# Altium integrated library Altera APEX 20KE.IntLib: 235 symbols (part 23 of 49)
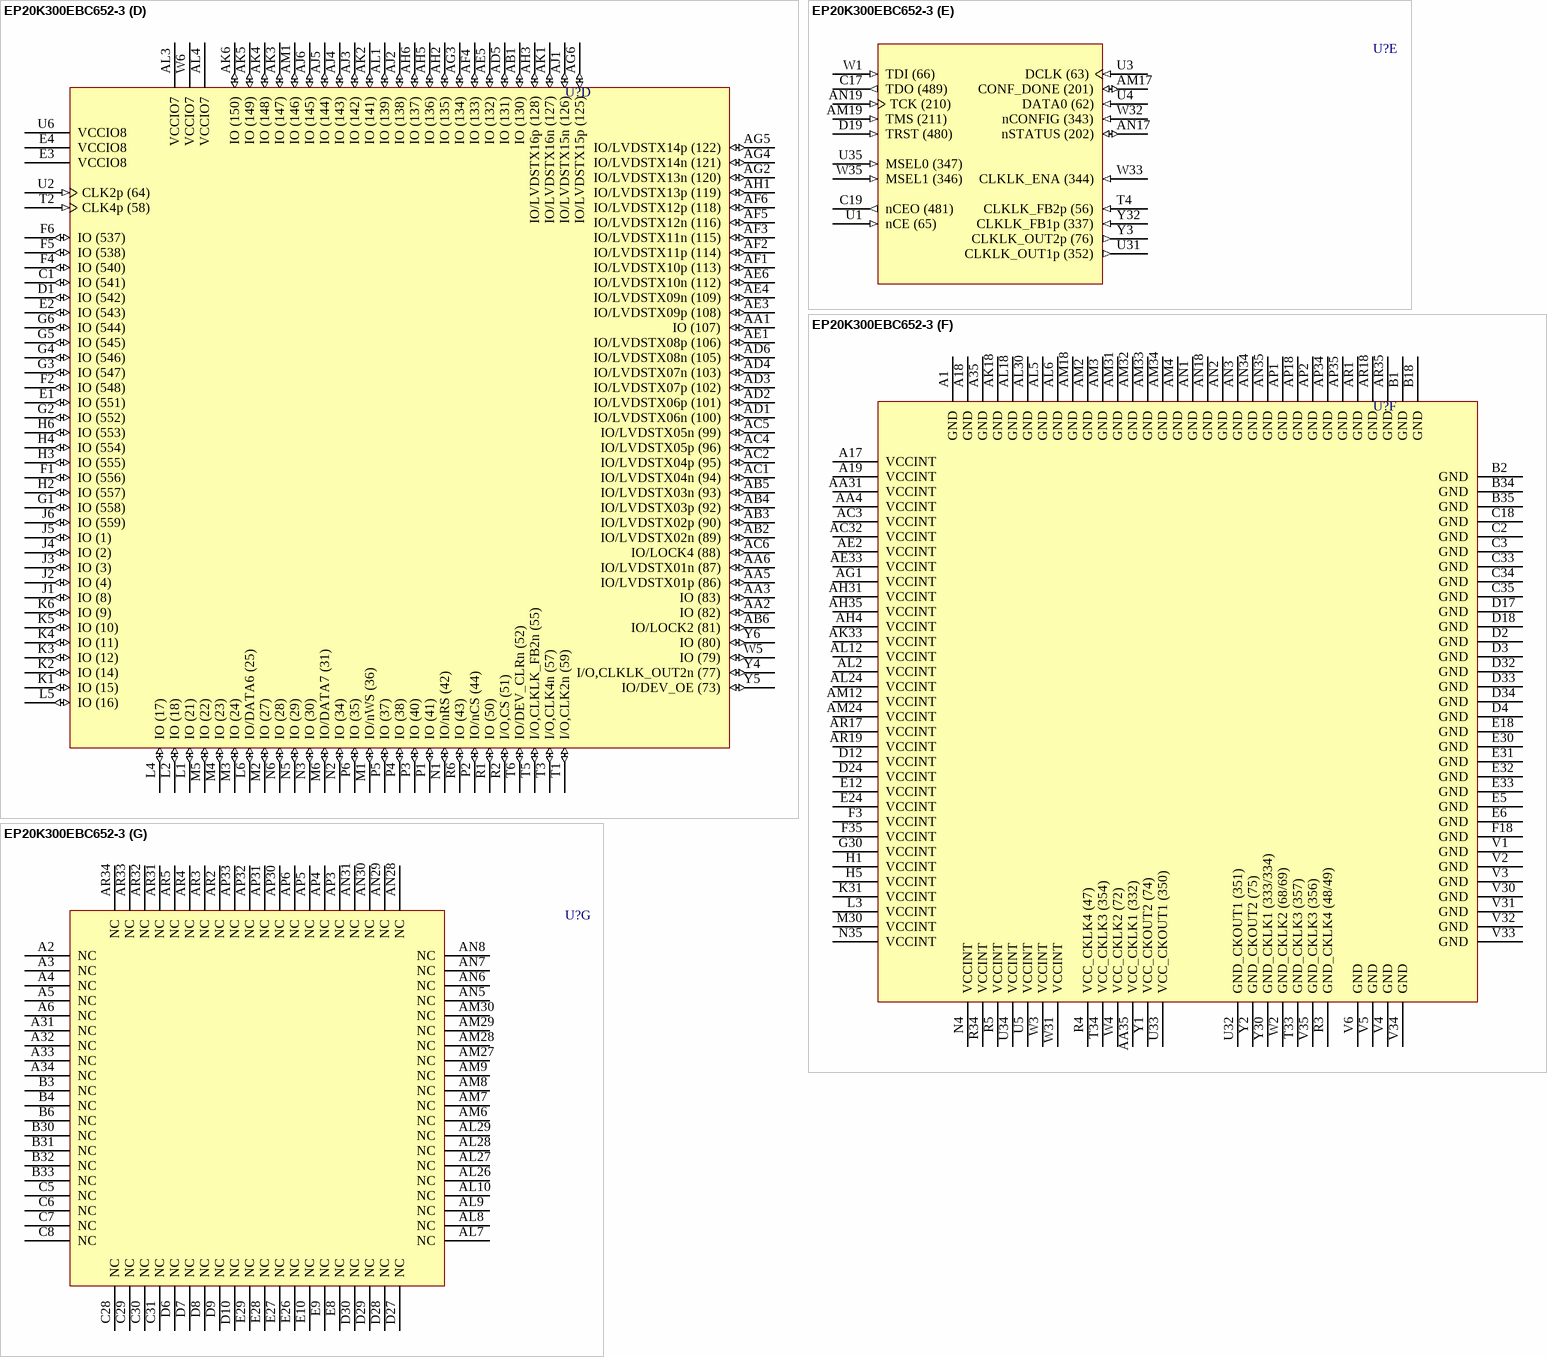
[diagram p421: symbol EP20K300EBC652-3]

## EP20K300EBC652-3
designator U?
APEX 20K300E PLD, 652-Pin BGA, Commercial Grade, Speed Grade 3; Published: 17-Jul-2002; LatestRevisionDate: 13-Apr-2006; LatestRevisionNote: IPC-7351 Footprint Added.; DatasheetVersion: Mar-2004; PackageVersion: ver14.1, Oct-2005; PackageReference: BGA652; Publisher: Altium Limited; PackageDescription: 652-Ball Ball Grid Array (BGA652); Code_JEDEC: MO-192-BAW-1; ComponentLink1Description: Manufacturer Link; ComponentLink1URL: http://www.altera.com/products/devices/apex/apx-index.html; ComponentLink2Description: Datasheet; ComponentLink2URL: http://www.altera.com/literature/ds/apex.pdf
footprint BGA652 (BGA, 652-Leads, Body 45x45mm, Pitch 1.27mm)
3D model EP20K300E-BGA652 (652-Ball Ball Grid Array (BGA652))
part A pins: A7 IO (532) (io), A8 IO/DATA2 (523) (io), A9 IO (520) (io), A10 IO (513) (io), A11 IO (508) (io), A12 IO (504) (io), A13 IO (503) (io), A14 IO/RDYnBSY (497) (io), A15 IO (495) (io), A16 IO (491) (io), A20 IO (479) (io), A21 IO (475) (io), A22 IO (473) (io), A23 IO (467) (io), A24 IO (466) (io), A25 IO (462) (io), A26 IO (457) (io), A27 IO (451) (io), A28 IO (448) (io), A29 IO (438) (io), A30 IO (433) (io), B5 IO/DATA4 (549) (io), B7 IO/DATA3 (536) (io), B8 IO (533) (io), B9 IO (529) (io), B10 IO (521) (io), B11 IO (516) (io), B12 IO (510) (io), B13 IO (505) (io), B14 IO (498) (io), B15 IO (496) (io), B16 IO (492) (io), B17 FAST2 (488) (io), B19 FAST1 (482) (io), B20 IO (478) (io), B21 IO (474) (io), B22 IO (472) (io), B23 IO (465) (io), B24 IO (460) (io), B25 IO (455) (io), B26 IO (450) (io), B27 IO (441) (io), B28 IO (437) (io), B29 IO (432) (io), C4 VCCIO1 (power), C9 IO (535) (io), C10 IO (530) (io), C11 IO (522) (io), C12 IO (517) (io), C13 IO/DATA1 (511) (io), C14 IO (506) (io), C15 I/O,CLKUSR (500) (io), C16 IO/INIT_DONE (493) (io), C20 IO (477) (io), C21 IO (470) (io), C22 IO (464) (io), C23 IO (459) (io), C24 IO (454) (io), C25 IO (449) (io), C26 IO (440) (io), C27 IO (435) (io), C32 VCCIO2 (power), D5 VCCIO1 (power), D11 IO (531) (io), D13 IO (518) (io), D14 IO (509) (io), D15 IO (502) (io), D16 IO (494) (io), D20 IO (476) (io), D21 IO (468) (io), D22 IO (461) (io), D23 IO (453) (io), D25 IO (439) (io), D26 IO (434) (io), D31 VCCIO2 (power), E7 IO/DATA5 (560) (io), E11 IO (534) (io), E13 IO (519) (io), E14 IO (514) (io), E15 IO (507) (io), E16 IO (499) (io), E17 VCCIO1 (power), E19 VCCIO2 (power), E20 IO (471) (io), E21 IO (463) (io), E22 IO (456) (io), E23 IO (452) (io), E25 IO (436) (io)
part B pins: AA30 IO/LOCK1 (326) (io), AA32 IO (329) (io), AA33 IO (330) (io), AA34 IO (331) (io), AB30 IO (318) (io), AB31 IO (319) (io), AB32 IO (322) (io), AB33 IO (323) (io), AB34 IO (324) (io), AB35 IO (325) (io), AC30 IO (311) (io), AC31 IO (312) (io), AC33 IO (315) (io), AC34 IO (316) (io), AC35 IO (317) (io), AD30 IO (304) (io), AD31 IO (305) (io), AD32 IO (306) (io), AD33 IO (308) (io), AD34 IO (309) (io), AD35 IO (310) (io), AE30 IO (297) (io), AE31 IO (298) (io), AE32 IO (299) (io), AE34 IO (302) (io), AE35 IO (303) (io), AF30 IO (290) (io), AF31 IO (291) (io), AF32 IO (292) (io), AF33 IO (293) (io), AF34 IO (295) (io), AF35 IO (296) (io), AG30 IO (281) (io), AG31 IO (283) (io), AG32 IO (284) (io), AG33 IO (285) (io), AG34 IO (286) (io), AG35 IO (289) (io), AH30 IO (275) (io), AH32 IO (276) (io), AH33 IO (277) (io), AH34 IO (279) (io), AJ30 IO (267) (io), AJ31 IO (268) (io), AJ32 IO (269) (io), AJ33 IO (270) (io), AJ34 IO (274) (io), AJ35 IO (280) (io), AK30 IO (262) (io), AK31 IO (263) (io), AK32 IO (264) (io), AK34 IO (272) (io), AK35 IO (278) (io), AL31 VCCIO4 (power), AL32 VCCIO4 (power), AL33 IO (261) (io), AL34 IO (265) (io), AL35 IO (273) (io), AM35 IO (266) (io), D35 IO (427) (io), E34 IO (428) (io), E35 IO (422) (io), F30 VCCIO3 (power), F31 VCCIO3 (power), F32 IO (430) (io), F33 IO (429) (io), F34 IO (423) (io), G31 IO (426) (io), G32 IO (425) (io), G33 IO (424) (io), G34 IO (421) (io), G35 IO/LVDSRX16n (406) (io), H30 IO (419) (io), H31 IO (418) (io), H32 IO (417) (io), H33 IO (416) (io), H34 IO/LVDSRX16p (407) (io), H35 IO (414) (io), J30 IO (415) (io), J31 IO/LVDSRX15n (405) (io), J32 IO/LVDSRX15p (404) (io), J33 IO/LVDSRX14p (401) (io), J34 IO/LVDSRX14n (400) (io), J35 IO/LVDSRX13n (399) (io), K30 IO/LVDSRX13p (398) (io), K32 IO/LVDSRX12p (397) (io), K33 IO/LVDSRX12n (395) (io), K34 IO (413) (io), K35 IO/LVDSRX11n (394) (io), L30 IO/LVDSRX11p (393) (io), L31 IO/LVDSRX10p (392) (io), L32 IO/LVDSRX10n (391) (io), L33 IO (412) (io), L34 IO/LVDSRX09n (388) (io), L35 IO/LVDSRX09p (387) (io), M31 IO/LVDSRX08p (385) (io), M32 IO/LVDSRX08n (384) (io), M33 IO (411) (io), M34 IO/LVDSRX07n (381) (io), M35 IO/LVDSRX07p (380) (io), N30 IO/LVDSRX06p (379) (io), N31 IO/LVDSRX06n (378) (io), N32 IO (410) (io), N33 IO/LVDSRX05n (377) (io), N34 IO/LVDSRX05p (374) (io), P30 IO/LVDSRX04p (373) (io), P31 IO/LVDSRX04n (372) (io), P32 IO (386) (io), P33 IO/LVDSRX03n (371) (io), P34 IO/LVDSRX03p (370) (io), P35 IO/LVDSRX02p (368) (io), R30 IO/LVDSRX02n (367) (io), R31 IO/LOCK3 (366) (io), R32 IO/LVDSRX01n (365) (io), R33 IO/LVDSRX01p (364) (io), R35 IO (361) (io), T30 IO (360) (io), T31 IO (359) (io), T32 IO (358) (io), T35 I/O,CLKLK_OUT1n (353) (io), U30 VCCIO3 (power), W30 VCCIO4 (power), W34 CLK1p (345) (in), Y31 I/O,CLKLK_FB1n (336) (io), Y33 I/O,CLK3n (338) (io), Y34 CLK3p (339) (in), Y35 I/O,CLK1n (340) (io)
part C pins: AL11 IO (157) (io), AL13 IO (172) (io), AL14 IO (176) (io), AL15 IO (183) (io), AL16 IO (191) (io), AL17 VCCIO6 (power), AL19 VCCIO5 (power), AL20 IO (220) (io), AL21 IO (228) (io), AL22 IO (235) (io), AL23 IO (239) (io), AL25 IO (254) (io), AM5 VCCIO6 (power), AM10 IO (155) (io), AM11 IO (160) (io), AM13 IO (173) (io), AM14 IO (181) (io), AM15 IO (188) (io), AM16 IO (197) (io), AM20 IO (215) (io), AM21 IO (223) (io), AM22 IO (230) (io), AM23 IO (238) (io), AM25 IO (251) (io), AM26 IO (256) (io), AN4 VCCIO6 (power), AN9 IO (156) (io), AN10 IO (161) (io), AN11 IO (169) (io), AN12 IO (174) (io), AN13 IO (179) (io), AN14 IO (184) (io), AN15 IO (190) (io), AN16 IO (198) (io), AN20 IO (214) (io), AN21 IO (221) (io), AN22 IO (227) (io), AN23 IO (232) (io), AN24 IO (237) (io), AN25 IO (242) (io), AN26 IO (250) (io), AN27 IO (255) (io), AN32 VCCIO5 (power), AN33 VCCIO5 (power), AP7 IO (153) (io), AP8 IO (158) (io), AP9 IO (162) (io), AP10 IO (170) (io), AP11 IO (175) (io), AP12 IO (180) (io), AP13 IO (185) (io), AP14 IO (193) (io), AP15 IO (195) (io), AP16 IO (199) (io), AP17 FAST4 (203) (io), AP19 FAST3 (209) (io), AP20 IO (213) (io), AP21 IO (217) (io), AP22 IO (219) (io), AP23 IO (226) (io), AP24 IO (231) (io), AP25 IO (236) (io), AP26 IO (241) (io), AP27 IO (249) (io), AP28 IO (253) (io), AP29 IO (258) (io), AR6 IO (154) (io), AR7 IO (159) (io), AR8 IO (168) (io), AR9 IO (171) (io), AR10 IO (177) (io), AR11 IO (182) (io), AR12 IO (186) (io), AR13 IO (187) (io), AR14 IO (194) (io), AR15 IO (196) (io), AR16 IO (200) (io), AR20 IO (212) (io), AR21 IO (216) (io), AR22 IO (218) (io), AR23 IO (224) (io), AR24 IO (225) (io), AR25 IO (229) (io), AR26 IO (234) (io), AR27 IO (240) (io), AR28 IO (243) (io), AR29 IO (252) (io), AR30 IO (257) (io)
part D pins: AA1 IO (107) (io), AA2 IO (82) (io), AA3 IO (83) (io), AA5 IO/LVDSTX01p (86) (io), AA6 IO/LVDSTX01n (87) (io), AB1 IO (130) (io), AB2 IO/LVDSTX02n (89) (io), AB3 IO/LVDSTX02p (90) (io), AB4 IO/LVDSTX03p (92) (io), AB5 IO/LVDSTX03n (93) (io), AB6 IO/LOCK2 (81) (io), AC1 IO/LVDSTX04n (94) (io), AC2 IO/LVDSTX04p (95) (io), AC4 IO/LVDSTX05p (96) (io), AC5 IO/LVDSTX05n (99) (io), AC6 IO/LOCK4 (88) (io), AD1 IO/LVDSTX06n (100) (io), AD2 IO/LVDSTX06p (101) (io), AD3 IO/LVDSTX07p (102) (io), AD4 IO/LVDSTX07n (103) (io), AD5 IO (131) (io), AD6 IO/LVDSTX08n (105) (io), AE1 IO/LVDSTX08p (106) (io), AE3 IO/LVDSTX09p (108) (io), AE4 IO/LVDSTX09n (109) (io), AE5 IO (132) (io), AE6 IO/LVDSTX10n (112) (io), AF1 IO/LVDSTX10p (113) (io), AF2 IO/LVDSTX11p (114) (io), AF3 IO/LVDSTX11n (115) (io), AF4 IO (133) (io), AF5 IO/LVDSTX12n (116) (io), AF6 IO/LVDSTX12p (118) (io), AG2 IO/LVDSTX13n (120) (io), AG3 IO (134) (io), AG4 IO/LVDSTX14n (121) (io), AG5 IO/LVDSTX14p (122) (io), AG6 IO/LVDSTX15p (125) (io), AH1 IO/LVDSTX13p (119) (io), AH2 IO (135) (io), AH3 IO/LVDSTX16p (128) (io), AH5 IO (136) (io), AH6 IO (137) (io), AJ1 IO/LVDSTX15n (126) (io), AJ2 IO (138) (io), AJ3 IO (142) (io), AJ4 IO (143) (io), AJ5 IO (144) (io), AJ6 IO (145) (io), AK1 IO/LVDSTX16n (127) (io), AK2 IO (141) (io), AK3 IO (147) (io), AK4 IO (148) (io), AK5 IO (149) (io), AK6 IO (150) (io), AL1 IO (139) (io), AL3 VCCIO7 (power), AL4 VCCIO7 (power), AM1 IO (146) (io), C1 IO (541) (io), D1 IO (542) (io), E1 IO (551) (io), E2 IO (543) (io), E3 VCCIO8 (power), E4 VCCIO8 (power), F1 IO (556) (io), F2 IO (548) (io), F4 IO (540) (io), F5 IO (538) (io), F6 IO (537) (io), G1 IO (558) (io), G2 IO (552) (io), G3 IO (547) (io), G4 IO (546) (io), G5 IO (545) (io), G6 IO (544) (io), H2 IO (557) (io), H3 IO (555) (io), H4 IO (554) (io), H6 IO (553) (io), J1 IO (8) (io), J2 IO (4) (io), J3 IO (3) (io), J4 IO (2) (io), J5 IO (1) (io), J6 IO (559) (io), K1 IO (15) (io), K2 IO (14) (io), K3 IO (12) (io), K4 IO (11) (io), K5 IO (10) (io), K6 IO (9) (io), L1 IO (21) (io), L2 IO (18) (io), L4 IO (17) (io), L5 IO (16) (io), L6 IO/DATA6 (25) (io), M1 IO/nWS (36) (io), M2 IO (27) (io), M3 IO (24) (io), M4 IO (23) (io), M5 IO (22) (io), M6 IO/DATA7 (31) (io), N1 IO/nRS (42) (io), N2 IO (34) (io), N3 IO (30) (io), N5 IO (29) (io), N6 IO (28) (io), P1 IO (41) (io), P2 IO/nCS (44) (io), P3 IO (40) (io), P4 IO (38) (io), P5 IO (37) (io), P6 IO (35) (io), R1 IO (50) (io), R2 I/O,CS (51) (io), R6 IO (43) (io), T1 I/O,CLK2n (59) (io), T2 CLK4p (58) (in), T3 I/O,CLK4n (57) (io), T5 I/O,CLKLK_FB2n (55) (io), T6 IO/DEV_CLRn (52) (io), U2 CLK2p (64) (in), U6 VCCIO8 (power), W5 IO (79) (io), W6 VCCIO7 (power), Y4 I/O,CLKLK_OUT2n (77) (io), Y5 IO/DEV_OE (73) (io), Y6 IO (80) (io)
part E pins: AM17 CONF_DONE (201) (io), AM19 TMS (211) (in), AN17 nSTATUS (202) (io), AN19 TCK (210) (in), C17 TDO (489) (out), C19 nCEO (481) (out), D19 TRST (480) (in), T4 CLKLK_FB2p (56) (in), U1 nCE (65) (in), U3 DCLK (63) (in), U4 DATA0 (62) (in), U31 CLKLK_OUT1p (352) (out), U35 MSEL0 (347) (in), W1 TDI (66) (in), W32 nCONFIG (343) (in), W33 CLKLK_ENA (344) (in), W35 MSEL1 (346) (in), Y3 CLKLK_OUT2p (76) (out), Y32 CLKLK_FB1p (337) (in)
part F pins: A1 GND (power), A17 VCCINT (power), A18 GND (power), A19 VCCINT (power), A35 GND (power), AA4 VCCINT (power), AA31 VCCINT (power), AA35 VCC_CKLK1 (332) (power), AC3 VCCINT (power), AC32 VCCINT (power), AE2 VCCINT (power), AE33 VCCINT (power), AG1 VCCINT (power), AH4 VCCINT (power), AH31 VCCINT (power), AH35 VCCINT (power), AK18 GND (power), AK33 VCCINT (power), AL2 VCCINT (power), AL5 GND (power), AL6 GND (power), AL12 VCCINT (power), AL18 GND (power), AL24 VCCINT (power), AL30 GND (power), AM2 GND (power), AM3 GND (power), AM4 GND (power), AM12 VCCINT (power), AM18 GND (power), AM24 VCCINT (power), AM31 GND (power), AM32 GND (power), AM33 GND (power), AM34 GND (power), AN1 GND (power), AN2 GND (power), AN3 GND (power), AN18 GND (power), AN34 GND (power), AN35 GND (power), AP1 GND (power), AP2 GND (power), AP18 GND (power), AP34 GND (power), AP35 GND (power), AR1 GND (power), AR17 VCCINT (power), AR18 GND (power), AR19 VCCINT (power), AR35 GND (power), B1 GND (power), B2 GND (power), B18 GND (power), B34 GND (power), B35 GND (power), C2 GND (power), C3 GND (power), C18 GND (power), C33 GND (power), C34 GND (power), C35 GND (power), D2 GND (power), D3 GND (power), D4 GND (power), D12 VCCINT (power), D17 GND (power), D18 GND (power), D24 VCCINT (power), D32 GND (power), D33 GND (power), D34 GND (power), E5 GND (power), E6 GND (power), E12 VCCINT (power), E18 GND (power), E24 VCCINT (power), E30 GND (power), E31 GND (power), E32 GND (power), E33 GND (power), F3 VCCINT (power), F18 GND (power), F35 VCCINT (power), G30 VCCINT (power), H1 VCCINT (power), H5 VCCINT (power), K31 VCCINT (power), L3 VCCINT (power), M30 VCCINT (power), N4 VCCINT (power), N35 VCCINT (power), R3 GND_CKLK4 (48/49) (power), R4 VCC_CKLK4 (47) (power), R5 VCCINT (power), R34 VCCINT (power), T33 GND_CKLK3 (357) (power), T34 VCC_CKLK3 (354) (power), U5 VCCINT (power), U32 GND_CKOUT1 (351) (power), U33 VCC_CKOUT1 (350) (power), U34 VCCINT (power), V1 GND (power), V2 GND (power), V3 GND (power), V4 GND (power), V5 GND (power), V6 GND (power), V30 GND (power), V31 GND (power), V32 GND (power), V33 GND (power), V34 GND (power), V35 GND_CKLK3 (356) (power), W2 GND_CKLK2 (68/69) (power), W3 VCCINT (power), W4 VCC_CKLK2 (72) (power), W31 VCCINT (power), Y1 VCC_CKOUT2 (74) (power), Y2 GND_CKOUT2 (75) (power), Y30 GND_CKLK1 (333/334) (power)
part G pins: A2 NC, A3 NC, A4 NC, A5 NC, A6 NC, A31 NC, A32 NC, A33 NC, A34 NC, AL7 NC, AL8 NC, AL9 NC, AL10 NC, AL26 NC, AL27 NC, AL28 NC, AL29 NC, AM6 NC, AM7 NC, AM8 NC, AM9 NC, AM27 NC, AM28 NC, AM29 NC, AM30 NC, AN5 NC, AN6 NC, AN7 NC, AN8 NC, AN28 NC, AN29 NC, AN30 NC, AN31 NC, AP3 NC, AP4 NC, AP5 NC, AP6 NC, AP30 NC, AP31 NC, AP32 NC, AP33 NC, AR2 NC, AR3 NC, AR4 NC, AR5 NC, AR31 NC, AR32 NC, AR33 NC, AR34 NC, B3 NC, B4 NC, B6 NC, B30 NC, B31 NC, B32 NC, B33 NC, C5 NC, C6 NC, C7 NC, C8 NC, C28 NC, C29 NC, C30 NC, C31 NC, D6 NC, D7 NC, D8 NC, D9 NC, D10 NC, D27 NC, D28 NC, D29 NC, D30 NC, E8 NC, E9 NC, E10 NC, E26 NC, E27 NC, E28 NC, E29 NC

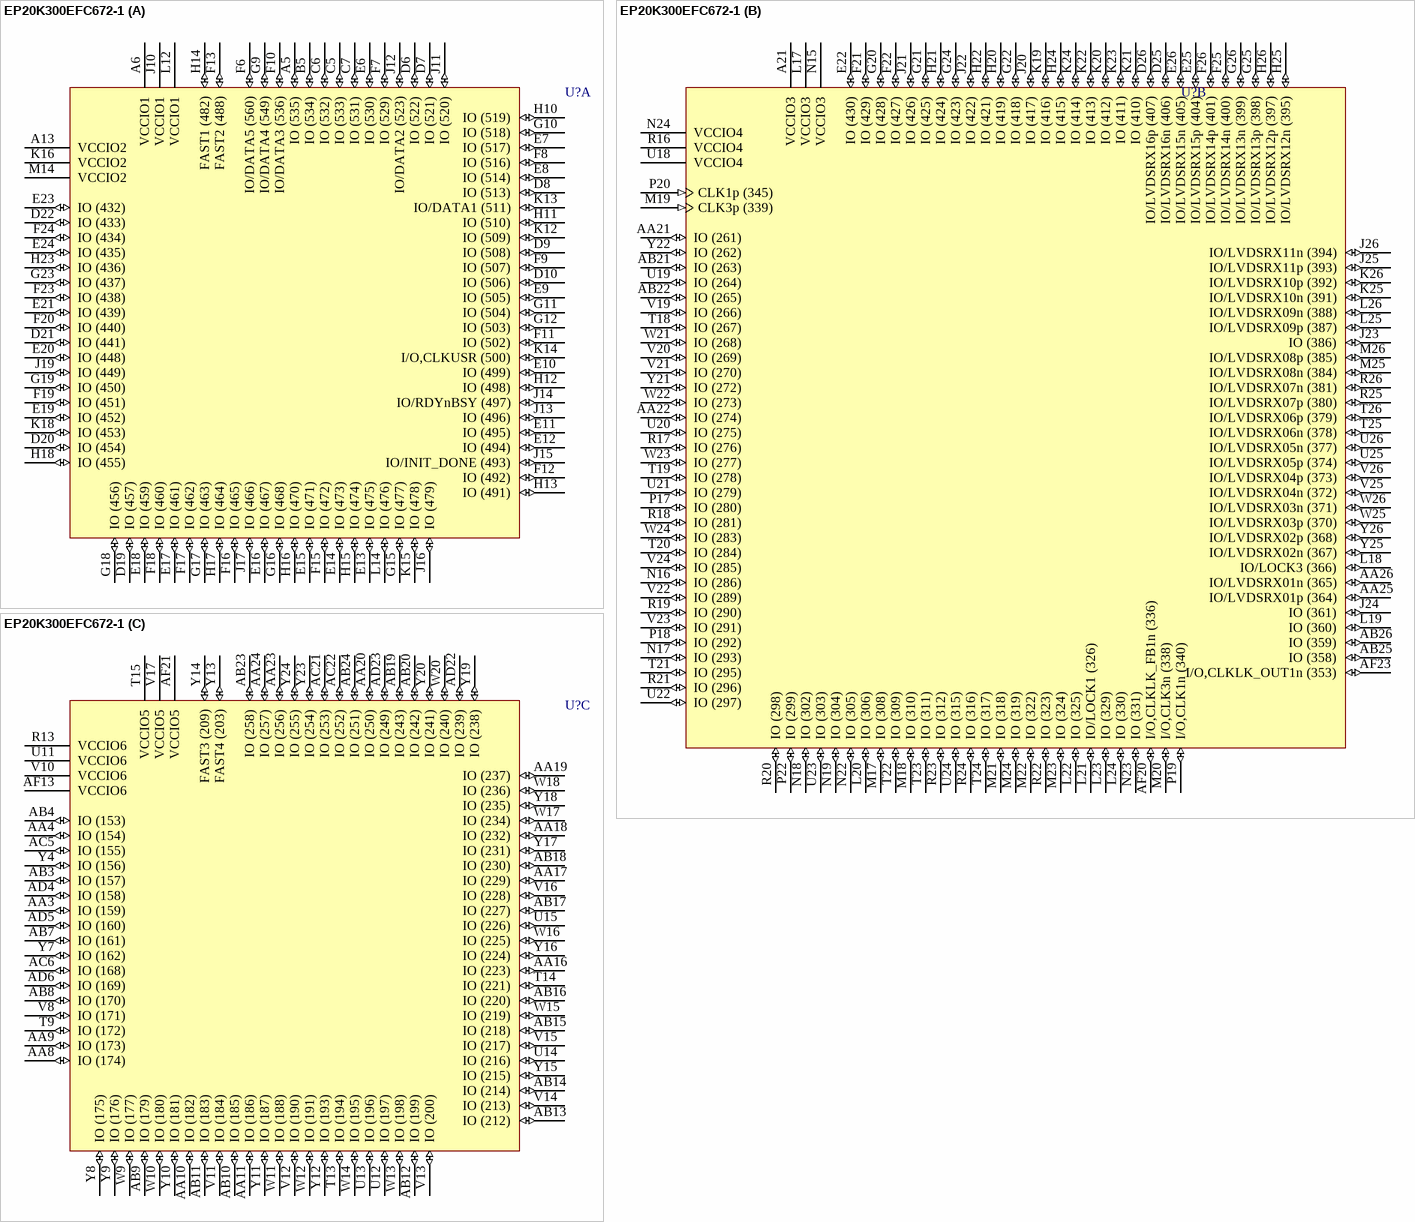
[diagram p227: symbol EP20K300EFC672-1]

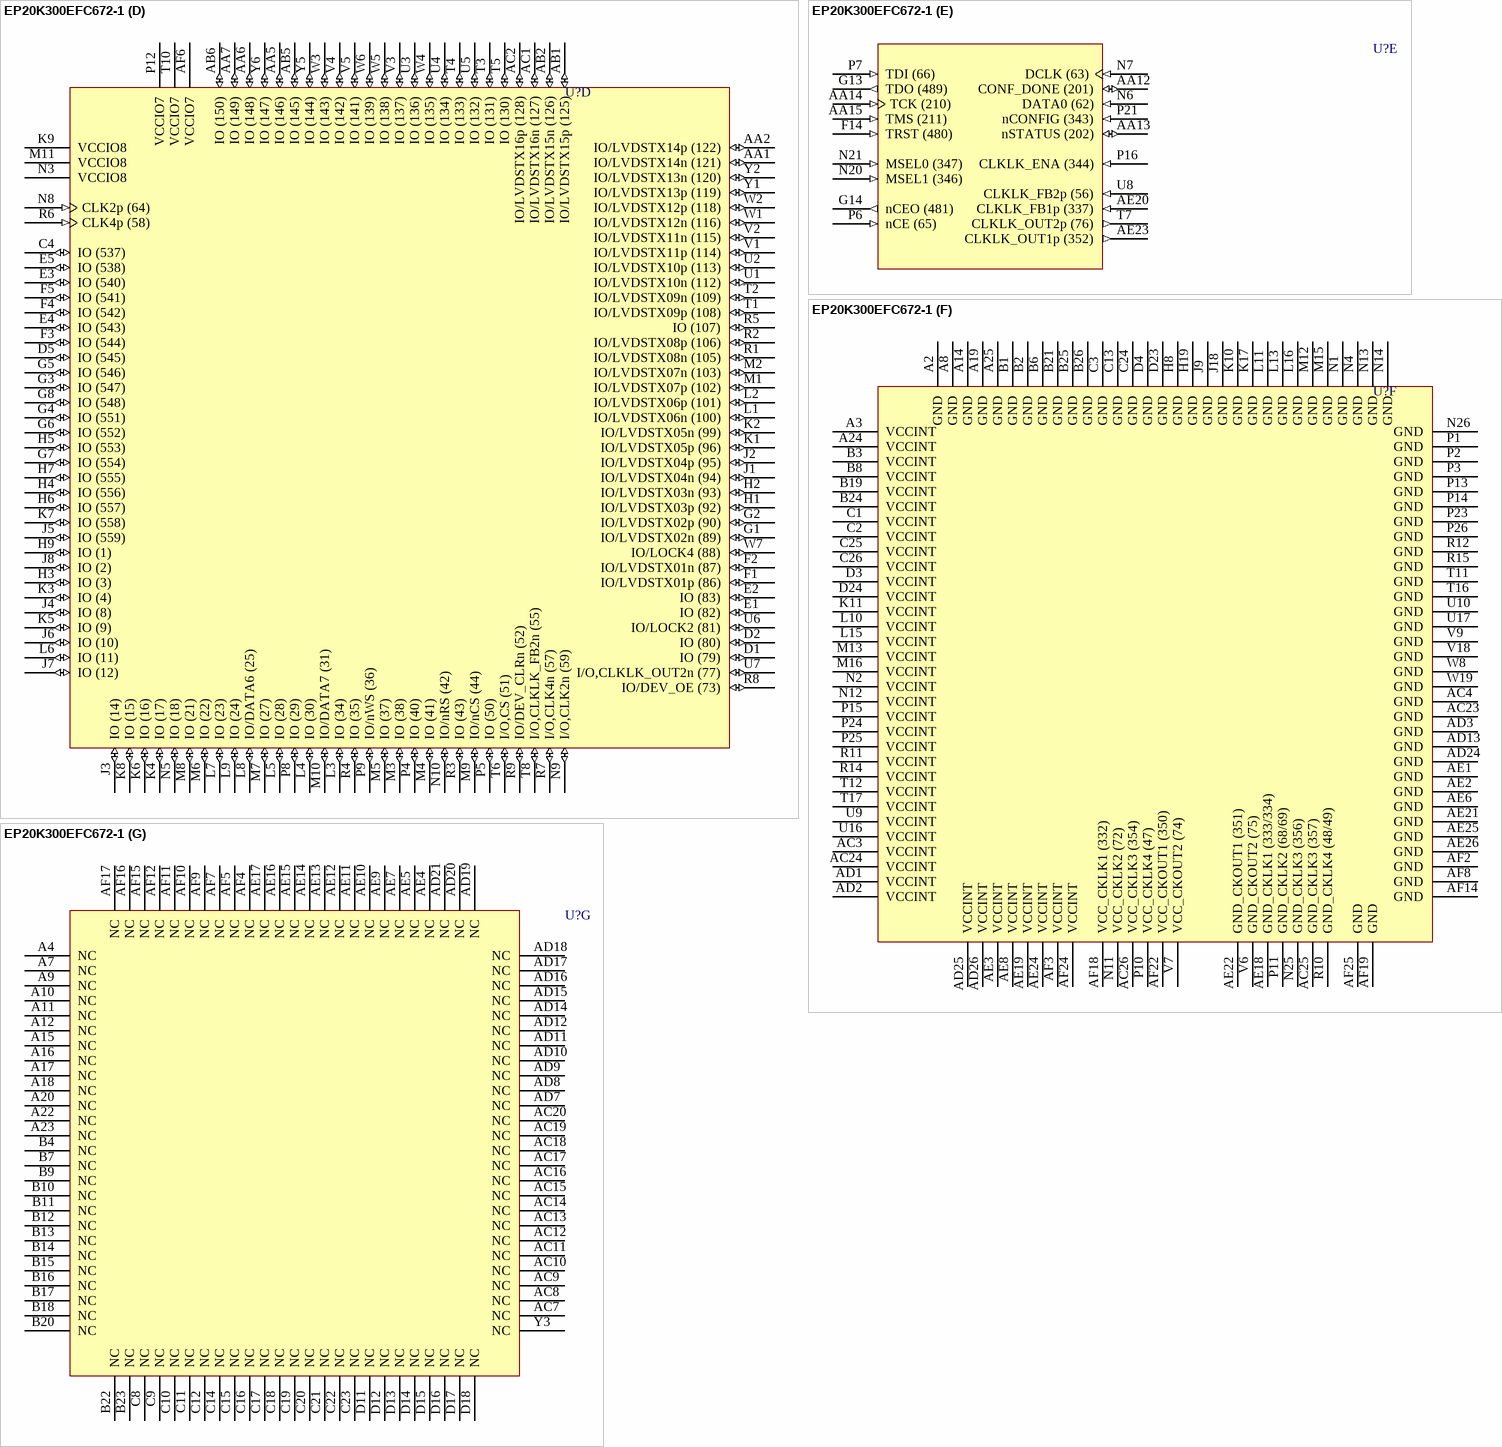
[diagram p228: symbol EP20K300EFC672-1]

## EP20K300EFC672-1
designator U?
APEX 20K300E PLD, 672-Pin FBGA, Commercial Grade, Speed Grade 1; Published: 17-Jul-2002; LatestRevisionDate: 13-Apr-2006; LatestRevisionNote: IPC-7351 Footprint Added.; DatasheetVersion: Mar-2004; PackageVersion: ver14.1, Oct-2005; PackageReference: FBGA672; Publisher: Altium Limited; PackageDescription: 672-Ball FineLine Ball Grid Array (FBGA672) - Flip Chip; Code_JEDEC: MS-034-AAL-1; ComponentLink1Description: Manufacturer Link; ComponentLink1URL: http://www.altera.com/products/devices/apex/apx-index.html; ComponentLink2Description: Datasheet; ComponentLink2URL: http://www.altera.com/literature/ds/apex.pdf
footprint FBGA672 (BGA, 672-Leads, Body 27x27mm, Pitch 1mm)
3D model EP20K300E-FBGA672 (672-Ball FineLine Ball Grid Array (FBGA672) - Flip Chip)
part A pins: A5 IO (535) (io), A6 VCCIO1 (power), A13 VCCIO2 (power), B5 IO (534) (io), C5 IO (533) (io), C6 IO (532) (io), C7 IO (531) (io), D6 IO (522) (io), D7 IO (521) (io), D8 IO (513) (io), D9 IO (508) (io), D10 IO (506) (io), D19 IO (457) (io), D20 IO (454) (io), D21 IO (441) (io), D22 IO (433) (io), E6 IO (530) (io), E7 IO (517) (io), E8 IO (514) (io), E9 IO (505) (io), E10 IO (499) (io), E11 IO (495) (io), E12 IO (494) (io), E13 IO (475) (io), E14 IO (473) (io), E15 IO (471) (io), E16 IO (467) (io), E17 IO (461) (io), E18 IO (459) (io), E19 IO (452) (io), E20 IO (448) (io), E21 IO (439) (io), E23 IO (432) (io), E24 IO (435) (io), F6 IO/DATA5 (560) (io), F7 IO (529) (io), F8 IO (516) (io), F9 IO (507) (io), F10 IO/DATA3 (536) (io), F11 IO (502) (io), F12 IO (492) (io), F13 FAST2 (488) (io), F15 IO (472) (io), F16 IO (465) (io), F17 IO (462) (io), F18 IO (460) (io), F19 IO (451) (io), F20 IO (440) (io), F23 IO (438) (io), F24 IO (434) (io), G9 IO/DATA4 (549) (io), G10 IO (518) (io), G11 IO (504) (io), G12 IO (503) (io), G15 IO (477) (io), G16 IO (468) (io), G17 IO (463) (io), G18 IO (456) (io), G19 IO (450) (io), G23 IO (437) (io), H10 IO (519) (io), H11 IO (510) (io), H12 IO (498) (io), H13 IO (491) (io), H14 FAST1 (482) (io), H15 IO (474) (io), H16 IO (470) (io), H17 IO (464) (io), H18 IO (455) (io), H23 IO (436) (io), J10 VCCIO1 (power), J11 IO (520) (io), J12 IO/DATA2 (523) (io), J13 IO (496) (io), J14 IO/RDYnBSY (497) (io), J15 IO/INIT_DONE (493) (io), J16 IO (479) (io), J17 IO (466) (io), J19 IO (449) (io), K12 IO (509) (io), K13 IO/DATA1 (511) (io), K14 I/O,CLKUSR (500) (io), K15 IO (478) (io), K16 VCCIO2 (power), K18 IO (453) (io), L12 VCCIO1 (power), L14 IO (476) (io), M14 VCCIO2 (power)
part B pins: A21 VCCIO3 (power), AA21 IO (261) (io), AA22 IO (274) (io), AA25 IO/LVDSRX01p (364) (io), AA26 IO/LVDSRX01n (365) (io), AB21 IO (263) (io), AB22 IO (265) (io), AB25 IO (358) (io), AB26 IO (359) (io), AF20 I/O,CLKLK_FB1n (336) (io), AF23 I/O,CLKLK_OUT1n (353) (io), D25 IO/LVDSRX16n (406) (io), D26 IO/LVDSRX16p (407) (io), E22 IO (430) (io), E25 IO/LVDSRX15p (404) (io), E26 IO/LVDSRX15n (405) (io), F21 IO (429) (io), F22 IO (427) (io), F25 IO/LVDSRX14n (400) (io), F26 IO/LVDSRX14p (401) (io), G20 IO (428) (io), G21 IO (425) (io), G22 IO (418) (io), G24 IO (423) (io), G25 IO/LVDSRX13p (398) (io), G26 IO/LVDSRX13n (399) (io), H20 IO (419) (io), H21 IO (424) (io), H22 IO (421) (io), H24 IO (415) (io), H25 IO/LVDSRX12n (395) (io), H26 IO/LVDSRX12p (397) (io), J20 IO (417) (io), J21 IO (426) (io), J22 IO (422) (io), J23 IO (386) (io), J24 IO (361) (io), J25 IO/LVDSRX11p (393) (io), J26 IO/LVDSRX11n (394) (io), K19 IO (416) (io), K20 IO (412) (io), K21 IO (410) (io), K22 IO (413) (io), K23 IO (411) (io), K24 IO (414) (io), K25 IO/LVDSRX10n (391) (io), K26 IO/LVDSRX10p (392) (io), L17 VCCIO3 (power), L18 IO/LOCK3 (366) (io), L19 IO (360) (io), L20 IO (306) (io), L21 IO/LOCK1 (326) (io), L22 IO (325) (io), L23 IO (329) (io), L24 IO (330) (io), L25 IO/LVDSRX09p (387) (io), L26 IO/LVDSRX09n (388) (io), M17 IO (308) (io), M18 IO (310) (io), M19 CLK3p (339) (in), M20 I/O,CLK3n (338) (io), M21 IO (318) (io), M22 IO (322) (io), M23 IO (324) (io), M24 IO (319) (io), M25 IO/LVDSRX08n (384) (io), M26 IO/LVDSRX08p (385) (io), N15 VCCIO3 (power), N16 IO (286) (io), N17 IO (293) (io), N18 IO (302) (io), N19 IO (304) (io), N22 IO (305) (io), N23 IO (331) (io), N24 VCCIO4 (power), P17 IO (280) (io), P18 IO (292) (io), P19 I/O,CLK1n (340) (io), P20 CLK1p (345) (in), P22 IO (299) (io), R16 VCCIO4 (power), R17 IO (276) (io), R18 IO (281) (io), R19 IO (290) (io), R20 IO (298) (io), R21 IO (296) (io), R22 IO (323) (io), R23 IO (312) (io), R24 IO (316) (io), R25 IO/LVDSRX07p (380) (io), R26 IO/LVDSRX07n (381) (io), T18 IO (267) (io), T19 IO (278) (io), T20 IO (284) (io), T21 IO (295) (io), T22 IO (309) (io), T23 IO (311) (io), T24 IO (317) (io), T25 IO/LVDSRX06n (378) (io), T26 IO/LVDSRX06p (379) (io), U18 VCCIO4 (power), U19 IO (264) (io), U20 IO (275) (io), U21 IO (279) (io), U22 IO (297) (io), U23 IO (303) (io), U24 IO (315) (io), U25 IO/LVDSRX05p (374) (io), U26 IO/LVDSRX05n (377) (io), V19 IO (266) (io), V20 IO (269) (io), V21 IO (270) (io), V22 IO (289) (io), V23 IO (291) (io), V24 IO (285) (io), V25 IO/LVDSRX04n (372) (io), V26 IO/LVDSRX04p (373) (io), W21 IO (268) (io), W22 IO (273) (io), W23 IO (277) (io), W24 IO (283) (io), W25 IO/LVDSRX03p (370) (io), W26 IO/LVDSRX03n (371) (io), Y21 IO (272) (io), Y22 IO (262) (io), Y25 IO/LVDSRX02n (367) (io), Y26 IO/LVDSRX02p (368) (io)
part C pins: AA3 IO (159) (io), AA4 IO (154) (io), AA8 IO (174) (io), AA9 IO (173) (io), AA10 IO (182) (io), AA11 IO (186) (io), AA16 IO (223) (io), AA17 IO (229) (io), AA18 IO (232) (io), AA19 IO (237) (io), AA20 IO (250) (io), AA23 IO (256) (io), AA24 IO (257) (io), AB3 IO (157) (io), AB4 IO (153) (io), AB7 IO (161) (io), AB8 IO (170) (io), AB9 IO (179) (io), AB10 IO (185) (io), AB11 IO (183) (io), AB12 IO (199) (io), AB13 IO (212) (io), AB14 IO (214) (io), AB15 IO (218) (io), AB16 IO (220) (io), AB17 IO (227) (io), AB18 IO (230) (io), AB19 IO (243) (io), AB20 IO (242) (io), AB23 IO (258) (io), AB24 IO (251) (io), AC5 IO (155) (io), AC6 IO (168) (io), AC21 IO (253) (io), AC22 IO (252) (io), AD4 IO (158) (io), AD5 IO (160) (io), AD6 IO (169) (io), AD22 IO (239) (io), AD23 IO (249) (io), AF13 VCCIO6 (power), AF21 VCCIO5 (power), R13 VCCIO6 (power), T9 IO (172) (io), T13 IO (194) (io), T14 IO (221) (io), T15 VCCIO5 (power), U11 VCCIO6 (power), U12 IO (197) (io), U13 IO (196) (io), U14 IO (216) (io), U15 IO (226) (io), V8 IO (171) (io), V10 VCCIO6 (power), V11 IO (184) (io), V12 IO (190) (io), V13 IO (200) (io), V14 IO (213) (io), V15 IO (217) (io), V16 IO (228) (io), V17 VCCIO5 (power), W9 IO (177) (io), W10 IO (180) (io), W11 IO (188) (io), W12 IO (191) (io), W13 IO (198) (io), W14 IO (195) (io), W15 IO (219) (io), W16 IO (225) (io), W17 IO (234) (io), W18 IO (236) (io), W20 IO (240) (io), Y4 IO (156) (io), Y7 IO (162) (io), Y8 IO (175) (io), Y9 IO (176) (io), Y10 IO (181) (io), Y11 IO (187) (io), Y12 IO (193) (io), Y13 FAST4 (203) (io), Y14 FAST3 (209) (io), Y15 IO (215) (io), Y16 IO (224) (io), Y17 IO (231) (io), Y18 IO (235) (io), Y19 IO (238) (io), Y20 IO (241) (io), Y23 IO (254) (io), Y24 IO (255) (io)
part D pins: AA1 IO/LVDSTX14n (121) (io), AA2 IO/LVDSTX14p (122) (io), AA5 IO (146) (io), AA6 IO (148) (io), AA7 IO (149) (io), AB1 IO/LVDSTX15p (125) (io), AB2 IO/LVDSTX15n (126) (io), AB5 IO (145) (io), AB6 IO (150) (io), AC1 IO/LVDSTX16n (127) (io), AC2 IO/LVDSTX16p (128) (io), AF6 VCCIO7 (power), C4 IO (537) (io), D1 IO (79) (io), D2 IO (80) (io), D5 IO (545) (io), E1 IO (82) (io), E2 IO (83) (io), E3 IO (540) (io), E4 IO (543) (io), E5 IO (538) (io), F1 IO/LVDSTX01p (86) (io), F2 IO/LVDSTX01n (87) (io), F3 IO (544) (io), F4 IO (542) (io), F5 IO (541) (io), G1 IO/LVDSTX02n (89) (io), G2 IO/LVDSTX02p (90) (io), G3 IO (547) (io), G4 IO (551) (io), G5 IO (546) (io), G6 IO (552) (io), G7 IO (554) (io), G8 IO (548) (io), H1 IO/LVDSTX03p (92) (io), H2 IO/LVDSTX03n (93) (io), H3 IO (3) (io), H4 IO (556) (io), H5 IO (553) (io), H6 IO (557) (io), H7 IO (555) (io), H9 IO (1) (io), J1 IO/LVDSTX04n (94) (io), J2 IO/LVDSTX04p (95) (io), J3 IO (14) (io), J4 IO (8) (io), J5 IO (559) (io), J6 IO (10) (io), J7 IO (12) (io), J8 IO (2) (io), K1 IO/LVDSTX05p (96) (io), K2 IO/LVDSTX05n (99) (io), K3 IO (4) (io), K4 IO (17) (io), K5 IO (9) (io), K6 IO (16) (io), K7 IO (558) (io), K8 IO (15) (io), K9 VCCIO8 (power), L1 IO/LVDSTX06n (100) (io), L2 IO/LVDSTX06p (101) (io), L3 IO (34) (io), L4 IO (30) (io), L5 IO (28) (io), L6 IO (11) (io), L7 IO (23) (io), L8 IO/DATA6 (25) (io), L9 IO (24) (io), M1 IO/LVDSTX07p (102) (io), M2 IO/LVDSTX07n (103) (io), M3 IO (38) (io), M4 IO (41) (io), M5 IO (37) (io), M6 IO (22) (io), M7 IO (27) (io), M8 IO (21) (io), M9 IO/nCS (44) (io), M10 IO/DATA7 (31) (io), M11 VCCIO8 (power), N3 VCCIO8 (power), N5 IO (18) (io), N8 CLK2p (64) (in), N9 I/O,CLK2n (59) (io), N10 IO/nRS (42) (io), P4 IO (40) (io), P5 IO (50) (io), P8 IO (29) (io), P9 IO/nWS (36) (io), P12 VCCIO7 (power), R1 IO/LVDSTX08n (105) (io), R2 IO/LVDSTX08p (106) (io), R3 IO (43) (io), R4 IO (35) (io), R5 IO (107) (io), R6 CLK4p (58) (in), R7 I/O,CLK4n (57) (io), R8 IO/DEV_OE (73) (io), R9 IO/DEV_CLRn (52) (io), T1 IO/LVDSTX09p (108) (io), T2 IO/LVDSTX09n (109) (io), T3 IO (131) (io), T4 IO (133) (io), T5 IO (130) (io), T6 I/O,CS (51) (io), T8 I/O,CLKLK_FB2n (55) (io), T10 VCCIO7 (power), U1 IO/LVDSTX10n (112) (io), U2 IO/LVDSTX10p (113) (io), U3 IO (136) (io), U4 IO (134) (io), U5 IO (132) (io), U6 IO/LOCK2 (81) (io), U7 I/O,CLKLK_OUT2n (77) (io), V1 IO/LVDSTX11p (114) (io), V2 IO/LVDSTX11n (115) (io), V3 IO (137) (io), V4 IO (142) (io), V5 IO (141) (io), W1 IO/LVDSTX12n (116) (io), W2 IO/LVDSTX12p (118) (io), W3 IO (143) (io), W4 IO (135) (io), W5 IO (138) (io), W6 IO (139) (io), W7 IO/LOCK4 (88) (io), Y1 IO/LVDSTX13p (119) (io), Y2 IO/LVDSTX13n (120) (io), Y5 IO (144) (io), Y6 IO (147) (io)
part E pins: AA12 CONF_DONE (201) (io), AA13 nSTATUS (202) (io), AA14 TCK (210) (in), AA15 TMS (211) (in), AE20 CLKLK_FB1p (337) (in), AE23 CLKLK_OUT1p (352) (out), F14 TRST (480) (in), G13 TDO (489) (out), G14 nCEO (481) (out), N6 DATA0 (62) (in), N7 DCLK (63) (in), N20 MSEL1 (346) (in), N21 MSEL0 (347) (in), P6 nCE (65) (in), P7 TDI (66) (in), P16 CLKLK_ENA (344) (in), P21 nCONFIG (343) (in), T7 CLKLK_OUT2p (76) (out), U8 CLKLK_FB2p (56) (in)
part F pins: A2 GND (power), A3 VCCINT (power), A8 GND (power), A14 GND (power), A19 GND (power), A24 VCCINT (power), A25 GND (power), AC3 VCCINT (power), AC4 GND (power), AC23 GND (power), AC24 VCCINT (power), AC25 GND_CKLK3 (357) (power), AC26 VCC_CKLK3 (354) (power), AD1 VCCINT (power), AD2 VCCINT (power), AD3 GND (power), AD13 GND (power), AD24 GND (power), AD25 VCCINT (power), AD26 VCCINT (power), AE1 GND (power), AE2 GND (power), AE3 VCCINT (power), AE6 GND (power), AE8 VCCINT (power), AE18 GND_CKLK1 (333/334) (power), AE19 VCCINT (power), AE21 GND (power), AE22 GND_CKOUT1 (351) (power), AE24 VCCINT (power), AE25 GND (power), AE26 GND (power), AF2 GND (power), AF3 VCCINT (power), AF8 GND (power), AF14 GND (power), AF18 VCC_CKLK1 (332) (power), AF19 GND (power), AF22 VCC_CKOUT1 (350) (power), AF24 VCCINT (power), AF25 GND (power), B1 GND (power), B2 GND (power), B3 VCCINT (power), B6 GND (power), B8 VCCINT (power), B19 VCCINT (power), B21 GND (power), B24 VCCINT (power), B25 GND (power), B26 GND (power), C1 VCCINT (power), C2 VCCINT (power), C3 GND (power), C13 GND (power), C24 GND (power), C25 VCCINT (power), C26 VCCINT (power), D3 VCCINT (power), D4 GND (power), D23 GND (power), D24 VCCINT (power), H8 GND (power), H19 GND (power), J9 GND (power), J18 GND (power), K10 GND (power), K11 VCCINT (power), K17 GND (power), L10 VCCINT (power), L11 GND (power), L13 GND (power), L15 VCCINT (power), L16 GND (power), M12 GND (power), M13 VCCINT (power), M15 GND (power), M16 VCCINT (power), N1 GND (power), N2 VCCINT (power), N4 GND (power), N11 VCC_CKLK2 (72) (power), N12 VCCINT (power), N13 GND (power), N14 GND (power), N25 GND_CKLK3 (356) (power), N26 GND (power), P1 GND (power), P2 GND (power), P3 GND (power), P10 VCC_CKLK4 (47) (power), P11 GND_CKLK2 (68/69) (power), P13 GND (power), P14 GND (power), P15 VCCINT (power), P23 GND (power), P24 VCCINT (power), P25 VCCINT (power), P26 GND (power), R10 GND_CKLK4 (48/49) (power), R11 VCCINT (power), R12 GND (power), R14 VCCINT (power), R15 GND (power), T11 GND (power), T12 VCCINT (power), T16 GND (power), T17 VCCINT (power), U9 VCCINT (power), U10 GND (power), U16 VCCINT (power), U17 GND (power), V6 GND_CKOUT2 (75) (power), V7 VCC_CKOUT2 (74) (power), V9 GND (power), V18 GND (power), W8 GND (power), W19 GND (power)
part G pins: A4 NC, A7 NC, A9 NC, A10 NC, A11 NC, A12 NC, A15 NC, A16 NC, A17 NC, A18 NC, A20 NC, A22 NC, A23 NC, AC7 NC, AC8 NC, AC9 NC, AC10 NC, AC11 NC, AC12 NC, AC13 NC, AC14 NC, AC15 NC, AC16 NC, AC17 NC, AC18 NC, AC19 NC, AC20 NC, AD7 NC, AD8 NC, AD9 NC, AD10 NC, AD11 NC, AD12 NC, AD14 NC, AD15 NC, AD16 NC, AD17 NC, AD18 NC, AD19 NC, AD20 NC, AD21 NC, AE4 NC, AE5 NC, AE7 NC, AE9 NC, AE10 NC, AE11 NC, AE12 NC, AE13 NC, AE14 NC, AE15 NC, AE16 NC, AE17 NC, AF4 NC, AF5 NC, AF7 NC, AF9 NC, AF10 NC, AF11 NC, AF12 NC, AF15 NC, AF16 NC, AF17 NC, B4 NC, B7 NC, B9 NC, B10 NC, B11 NC, B12 NC, B13 NC, B14 NC, B15 NC, B16 NC, B17 NC, B18 NC, B20 NC, B22 NC, B23 NC, C8 NC, C9 NC, C10 NC, C11 NC, C12 NC, C14 NC, C15 NC, C16 NC, C17 NC, C18 NC, C19 NC, C20 NC, C21 NC, C22 NC, C23 NC, D11 NC, D12 NC, D13 NC, D14 NC, D15 NC, D16 NC, D17 NC, D18 NC, Y3 NC

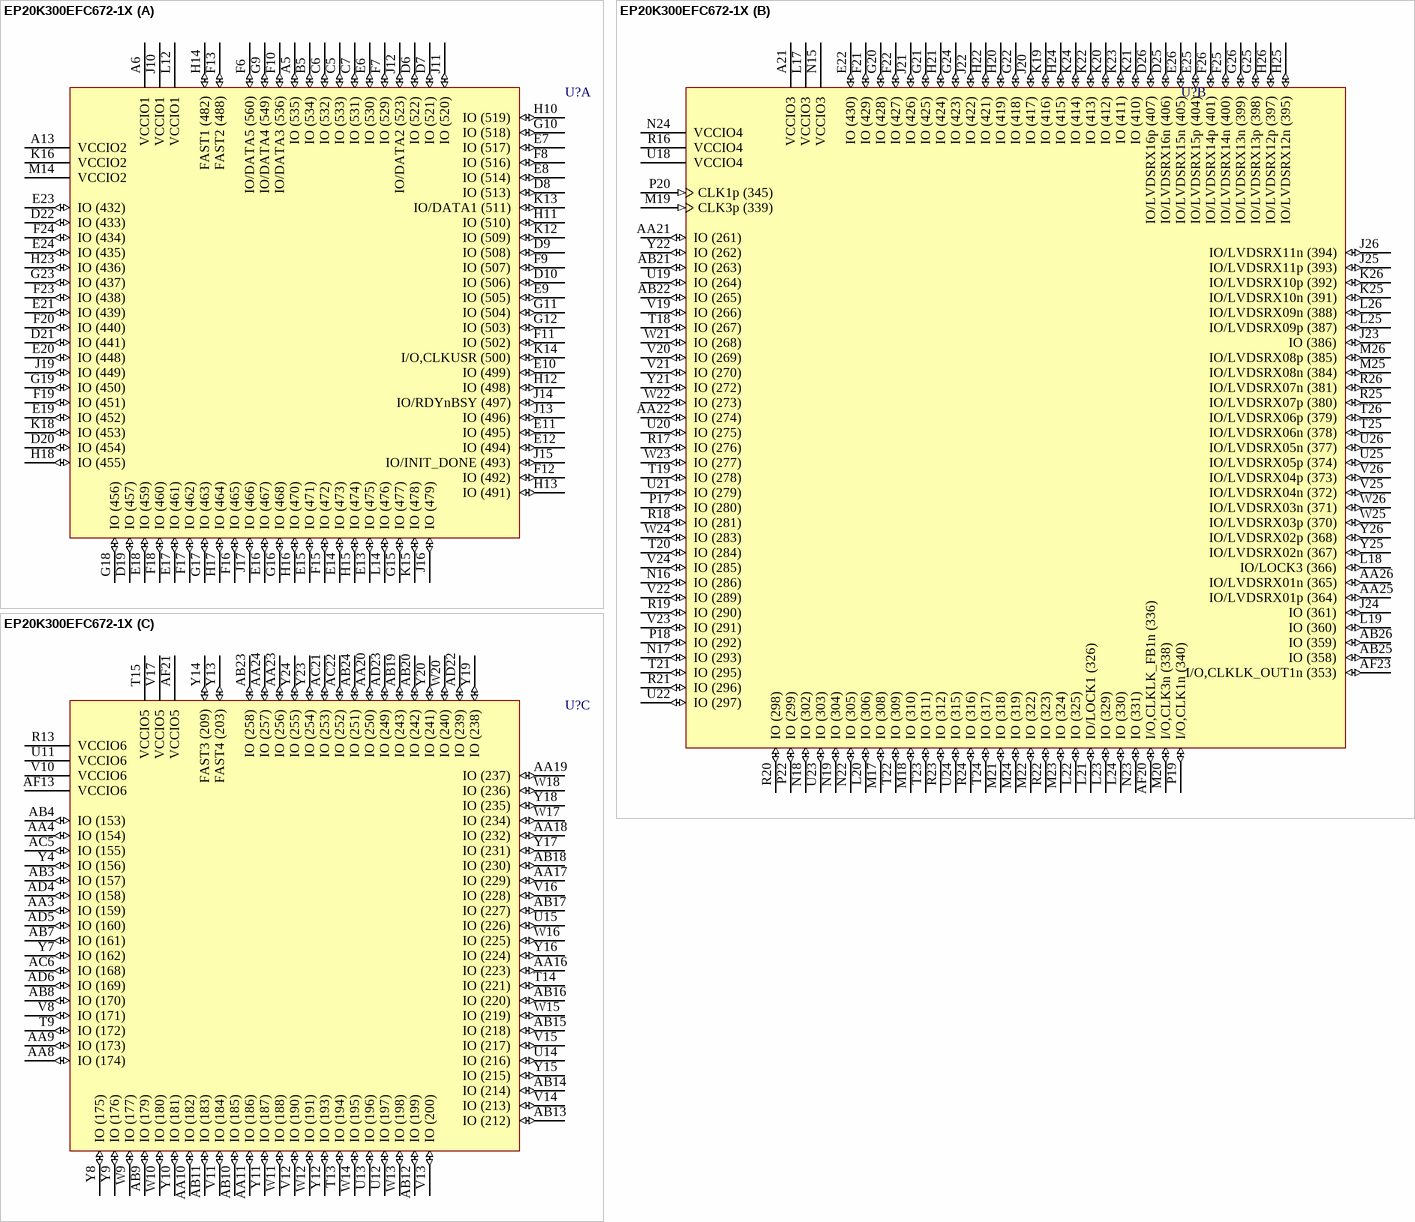
[diagram p229: symbol EP20K300EFC672-1X]

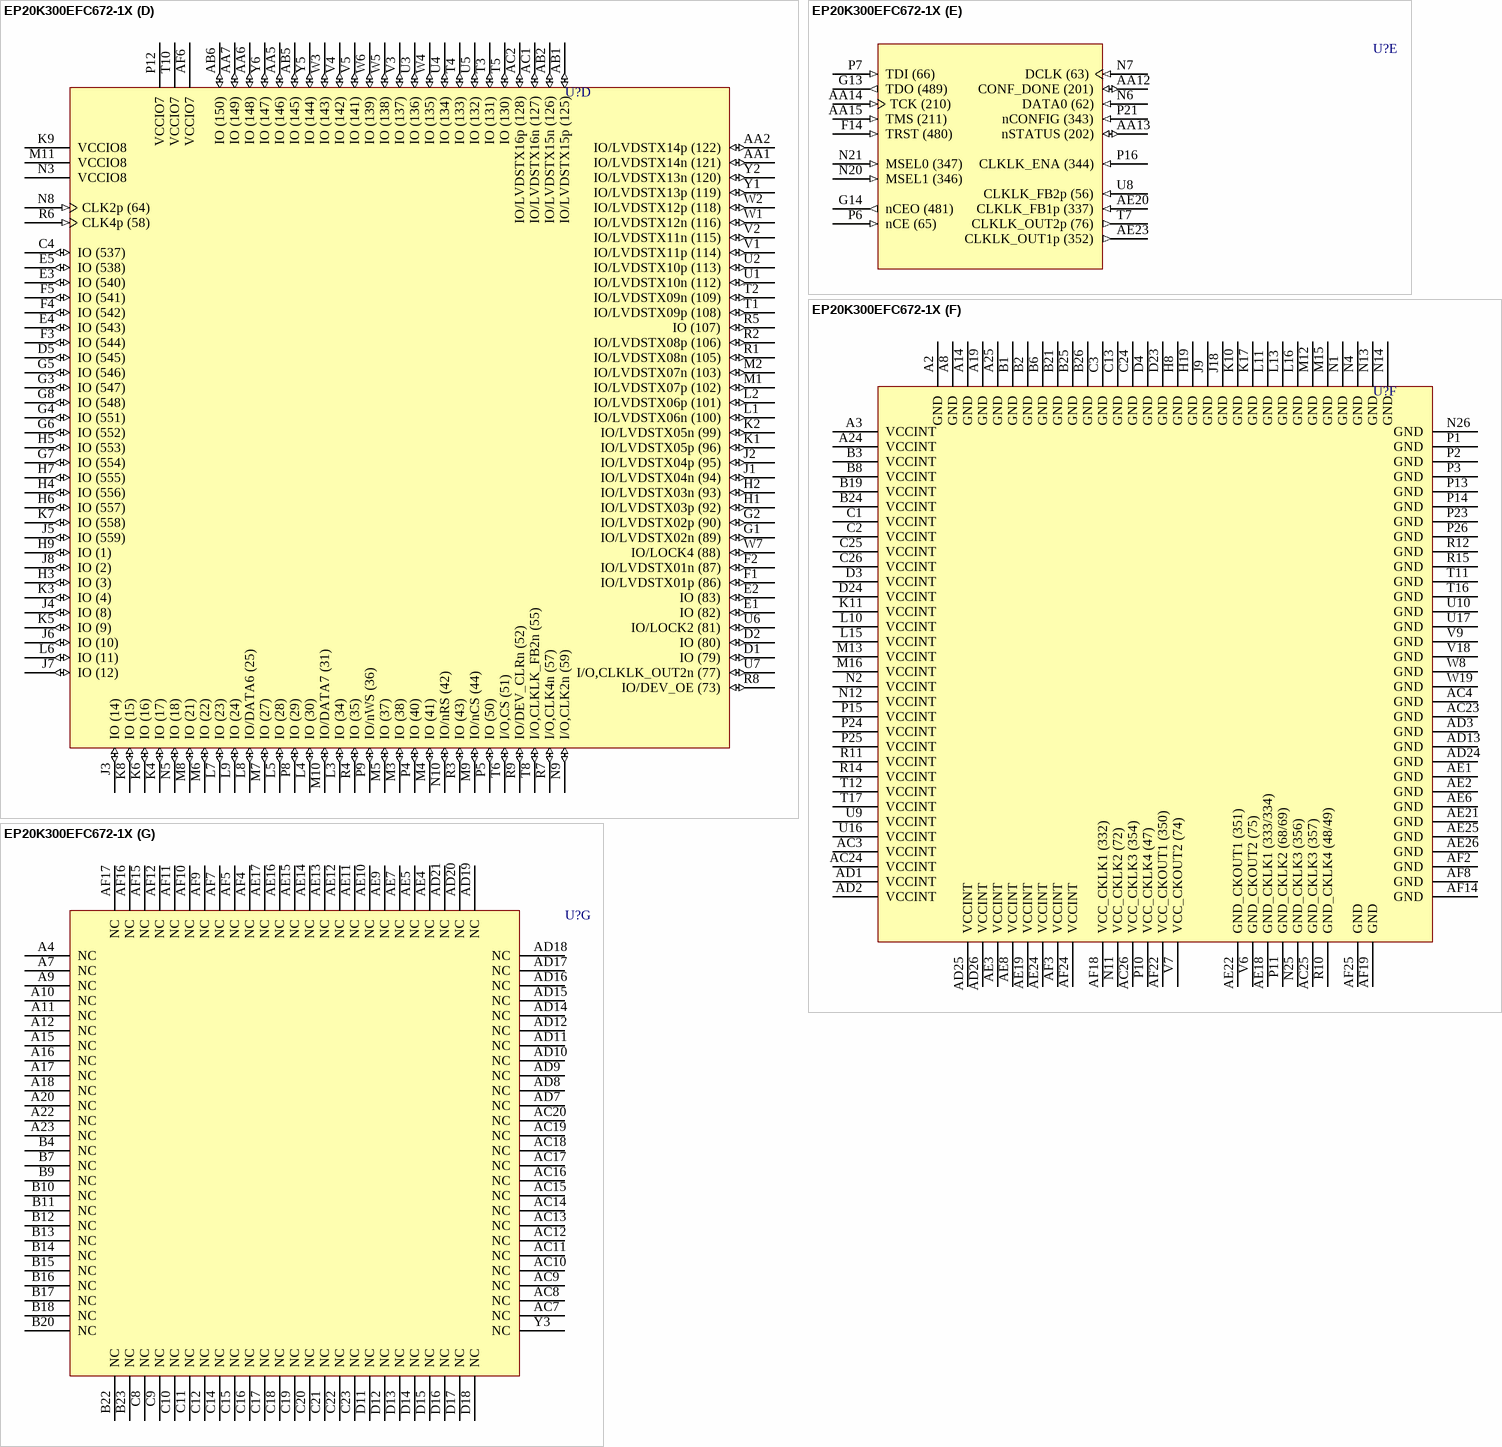
[diagram p230: symbol EP20K300EFC672-1X]

## EP20K300EFC672-1X
designator U?
APEX 20K300E PLD with PLLs and LVDS, 672-Pin FBGA, Commercial Grade, Speed Grade 1; Published: 17-Jul-2002; LatestRevisionDate: 13-Apr-2006; LatestRevisionNote: IPC-7351 Footprint Added.; DatasheetVersion: Mar-2004; PackageVersion: ver14.1, Oct-2005; PackageReference: FBGA672; Publisher: Altium Limited; PackageDescription: 672-Ball FineLine Ball Grid Array (FBGA672) - Flip Chip; Code_JEDEC: MS-034-AAL-1; ComponentLink1Description: Manufacturer Link; ComponentLink1URL: http://www.altera.com/products/devices/apex/apx-index.html; ComponentLink2Description: Datasheet; ComponentLink2URL: http://www.altera.com/literature/ds/apex.pdf
footprint FBGA672 (BGA, 672-Leads, Body 27x27mm, Pitch 1mm)
3D model EP20K300E-FBGA672 (672-Ball FineLine Ball Grid Array (FBGA672) - Flip Chip)
part A pins: A5 IO (535) (io), A6 VCCIO1 (power), A13 VCCIO2 (power), B5 IO (534) (io), C5 IO (533) (io), C6 IO (532) (io), C7 IO (531) (io), D6 IO (522) (io), D7 IO (521) (io), D8 IO (513) (io), D9 IO (508) (io), D10 IO (506) (io), D19 IO (457) (io), D20 IO (454) (io), D21 IO (441) (io), D22 IO (433) (io), E6 IO (530) (io), E7 IO (517) (io), E8 IO (514) (io), E9 IO (505) (io), E10 IO (499) (io), E11 IO (495) (io), E12 IO (494) (io), E13 IO (475) (io), E14 IO (473) (io), E15 IO (471) (io), E16 IO (467) (io), E17 IO (461) (io), E18 IO (459) (io), E19 IO (452) (io), E20 IO (448) (io), E21 IO (439) (io), E23 IO (432) (io), E24 IO (435) (io), F6 IO/DATA5 (560) (io), F7 IO (529) (io), F8 IO (516) (io), F9 IO (507) (io), F10 IO/DATA3 (536) (io), F11 IO (502) (io), F12 IO (492) (io), F13 FAST2 (488) (io), F15 IO (472) (io), F16 IO (465) (io), F17 IO (462) (io), F18 IO (460) (io), F19 IO (451) (io), F20 IO (440) (io), F23 IO (438) (io), F24 IO (434) (io), G9 IO/DATA4 (549) (io), G10 IO (518) (io), G11 IO (504) (io), G12 IO (503) (io), G15 IO (477) (io), G16 IO (468) (io), G17 IO (463) (io), G18 IO (456) (io), G19 IO (450) (io), G23 IO (437) (io), H10 IO (519) (io), H11 IO (510) (io), H12 IO (498) (io), H13 IO (491) (io), H14 FAST1 (482) (io), H15 IO (474) (io), H16 IO (470) (io), H17 IO (464) (io), H18 IO (455) (io), H23 IO (436) (io), J10 VCCIO1 (power), J11 IO (520) (io), J12 IO/DATA2 (523) (io), J13 IO (496) (io), J14 IO/RDYnBSY (497) (io), J15 IO/INIT_DONE (493) (io), J16 IO (479) (io), J17 IO (466) (io), J19 IO (449) (io), K12 IO (509) (io), K13 IO/DATA1 (511) (io), K14 I/O,CLKUSR (500) (io), K15 IO (478) (io), K16 VCCIO2 (power), K18 IO (453) (io), L12 VCCIO1 (power), L14 IO (476) (io), M14 VCCIO2 (power)
part B pins: A21 VCCIO3 (power), AA21 IO (261) (io), AA22 IO (274) (io), AA25 IO/LVDSRX01p (364) (io), AA26 IO/LVDSRX01n (365) (io), AB21 IO (263) (io), AB22 IO (265) (io), AB25 IO (358) (io), AB26 IO (359) (io), AF20 I/O,CLKLK_FB1n (336) (io), AF23 I/O,CLKLK_OUT1n (353) (io), D25 IO/LVDSRX16n (406) (io), D26 IO/LVDSRX16p (407) (io), E22 IO (430) (io), E25 IO/LVDSRX15p (404) (io), E26 IO/LVDSRX15n (405) (io), F21 IO (429) (io), F22 IO (427) (io), F25 IO/LVDSRX14n (400) (io), F26 IO/LVDSRX14p (401) (io), G20 IO (428) (io), G21 IO (425) (io), G22 IO (418) (io), G24 IO (423) (io), G25 IO/LVDSRX13p (398) (io), G26 IO/LVDSRX13n (399) (io), H20 IO (419) (io), H21 IO (424) (io), H22 IO (421) (io), H24 IO (415) (io), H25 IO/LVDSRX12n (395) (io), H26 IO/LVDSRX12p (397) (io), J20 IO (417) (io), J21 IO (426) (io), J22 IO (422) (io), J23 IO (386) (io), J24 IO (361) (io), J25 IO/LVDSRX11p (393) (io), J26 IO/LVDSRX11n (394) (io), K19 IO (416) (io), K20 IO (412) (io), K21 IO (410) (io), K22 IO (413) (io), K23 IO (411) (io), K24 IO (414) (io), K25 IO/LVDSRX10n (391) (io), K26 IO/LVDSRX10p (392) (io), L17 VCCIO3 (power), L18 IO/LOCK3 (366) (io), L19 IO (360) (io), L20 IO (306) (io), L21 IO/LOCK1 (326) (io), L22 IO (325) (io), L23 IO (329) (io), L24 IO (330) (io), L25 IO/LVDSRX09p (387) (io), L26 IO/LVDSRX09n (388) (io), M17 IO (308) (io), M18 IO (310) (io), M19 CLK3p (339) (in), M20 I/O,CLK3n (338) (io), M21 IO (318) (io), M22 IO (322) (io), M23 IO (324) (io), M24 IO (319) (io), M25 IO/LVDSRX08n (384) (io), M26 IO/LVDSRX08p (385) (io), N15 VCCIO3 (power), N16 IO (286) (io), N17 IO (293) (io), N18 IO (302) (io), N19 IO (304) (io), N22 IO (305) (io), N23 IO (331) (io), N24 VCCIO4 (power), P17 IO (280) (io), P18 IO (292) (io), P19 I/O,CLK1n (340) (io), P20 CLK1p (345) (in), P22 IO (299) (io), R16 VCCIO4 (power), R17 IO (276) (io), R18 IO (281) (io), R19 IO (290) (io), R20 IO (298) (io), R21 IO (296) (io), R22 IO (323) (io), R23 IO (312) (io), R24 IO (316) (io), R25 IO/LVDSRX07p (380) (io), R26 IO/LVDSRX07n (381) (io), T18 IO (267) (io), T19 IO (278) (io), T20 IO (284) (io), T21 IO (295) (io), T22 IO (309) (io), T23 IO (311) (io), T24 IO (317) (io), T25 IO/LVDSRX06n (378) (io), T26 IO/LVDSRX06p (379) (io), U18 VCCIO4 (power), U19 IO (264) (io), U20 IO (275) (io), U21 IO (279) (io), U22 IO (297) (io), U23 IO (303) (io), U24 IO (315) (io), U25 IO/LVDSRX05p (374) (io), U26 IO/LVDSRX05n (377) (io), V19 IO (266) (io), V20 IO (269) (io), V21 IO (270) (io), V22 IO (289) (io), V23 IO (291) (io), V24 IO (285) (io), V25 IO/LVDSRX04n (372) (io), V26 IO/LVDSRX04p (373) (io), W21 IO (268) (io), W22 IO (273) (io), W23 IO (277) (io), W24 IO (283) (io), W25 IO/LVDSRX03p (370) (io), W26 IO/LVDSRX03n (371) (io), Y21 IO (272) (io), Y22 IO (262) (io), Y25 IO/LVDSRX02n (367) (io), Y26 IO/LVDSRX02p (368) (io)
part C pins: AA3 IO (159) (io), AA4 IO (154) (io), AA8 IO (174) (io), AA9 IO (173) (io), AA10 IO (182) (io), AA11 IO (186) (io), AA16 IO (223) (io), AA17 IO (229) (io), AA18 IO (232) (io), AA19 IO (237) (io), AA20 IO (250) (io), AA23 IO (256) (io), AA24 IO (257) (io), AB3 IO (157) (io), AB4 IO (153) (io), AB7 IO (161) (io), AB8 IO (170) (io), AB9 IO (179) (io), AB10 IO (185) (io), AB11 IO (183) (io), AB12 IO (199) (io), AB13 IO (212) (io), AB14 IO (214) (io), AB15 IO (218) (io), AB16 IO (220) (io), AB17 IO (227) (io), AB18 IO (230) (io), AB19 IO (243) (io), AB20 IO (242) (io), AB23 IO (258) (io), AB24 IO (251) (io), AC5 IO (155) (io), AC6 IO (168) (io), AC21 IO (253) (io), AC22 IO (252) (io), AD4 IO (158) (io), AD5 IO (160) (io), AD6 IO (169) (io), AD22 IO (239) (io), AD23 IO (249) (io), AF13 VCCIO6 (power), AF21 VCCIO5 (power), R13 VCCIO6 (power), T9 IO (172) (io), T13 IO (194) (io), T14 IO (221) (io), T15 VCCIO5 (power), U11 VCCIO6 (power), U12 IO (197) (io), U13 IO (196) (io), U14 IO (216) (io), U15 IO (226) (io), V8 IO (171) (io), V10 VCCIO6 (power), V11 IO (184) (io), V12 IO (190) (io), V13 IO (200) (io), V14 IO (213) (io), V15 IO (217) (io), V16 IO (228) (io), V17 VCCIO5 (power), W9 IO (177) (io), W10 IO (180) (io), W11 IO (188) (io), W12 IO (191) (io), W13 IO (198) (io), W14 IO (195) (io), W15 IO (219) (io), W16 IO (225) (io), W17 IO (234) (io), W18 IO (236) (io), W20 IO (240) (io), Y4 IO (156) (io), Y7 IO (162) (io), Y8 IO (175) (io), Y9 IO (176) (io), Y10 IO (181) (io), Y11 IO (187) (io), Y12 IO (193) (io), Y13 FAST4 (203) (io), Y14 FAST3 (209) (io), Y15 IO (215) (io), Y16 IO (224) (io), Y17 IO (231) (io), Y18 IO (235) (io), Y19 IO (238) (io), Y20 IO (241) (io), Y23 IO (254) (io), Y24 IO (255) (io)
part D pins: AA1 IO/LVDSTX14n (121) (io), AA2 IO/LVDSTX14p (122) (io), AA5 IO (146) (io), AA6 IO (148) (io), AA7 IO (149) (io), AB1 IO/LVDSTX15p (125) (io), AB2 IO/LVDSTX15n (126) (io), AB5 IO (145) (io), AB6 IO (150) (io), AC1 IO/LVDSTX16n (127) (io), AC2 IO/LVDSTX16p (128) (io), AF6 VCCIO7 (power), C4 IO (537) (io), D1 IO (79) (io), D2 IO (80) (io), D5 IO (545) (io), E1 IO (82) (io), E2 IO (83) (io), E3 IO (540) (io), E4 IO (543) (io), E5 IO (538) (io), F1 IO/LVDSTX01p (86) (io), F2 IO/LVDSTX01n (87) (io), F3 IO (544) (io), F4 IO (542) (io), F5 IO (541) (io), G1 IO/LVDSTX02n (89) (io), G2 IO/LVDSTX02p (90) (io), G3 IO (547) (io), G4 IO (551) (io), G5 IO (546) (io), G6 IO (552) (io), G7 IO (554) (io), G8 IO (548) (io), H1 IO/LVDSTX03p (92) (io), H2 IO/LVDSTX03n (93) (io), H3 IO (3) (io), H4 IO (556) (io), H5 IO (553) (io), H6 IO (557) (io), H7 IO (555) (io), H9 IO (1) (io), J1 IO/LVDSTX04n (94) (io), J2 IO/LVDSTX04p (95) (io), J3 IO (14) (io), J4 IO (8) (io), J5 IO (559) (io), J6 IO (10) (io), J7 IO (12) (io), J8 IO (2) (io), K1 IO/LVDSTX05p (96) (io), K2 IO/LVDSTX05n (99) (io), K3 IO (4) (io), K4 IO (17) (io), K5 IO (9) (io), K6 IO (16) (io), K7 IO (558) (io), K8 IO (15) (io), K9 VCCIO8 (power), L1 IO/LVDSTX06n (100) (io), L2 IO/LVDSTX06p (101) (io), L3 IO (34) (io), L4 IO (30) (io), L5 IO (28) (io), L6 IO (11) (io), L7 IO (23) (io), L8 IO/DATA6 (25) (io), L9 IO (24) (io), M1 IO/LVDSTX07p (102) (io), M2 IO/LVDSTX07n (103) (io), M3 IO (38) (io), M4 IO (41) (io), M5 IO (37) (io), M6 IO (22) (io), M7 IO (27) (io), M8 IO (21) (io), M9 IO/nCS (44) (io), M10 IO/DATA7 (31) (io), M11 VCCIO8 (power), N3 VCCIO8 (power), N5 IO (18) (io), N8 CLK2p (64) (in), N9 I/O,CLK2n (59) (io), N10 IO/nRS (42) (io), P4 IO (40) (io), P5 IO (50) (io), P8 IO (29) (io), P9 IO/nWS (36) (io), P12 VCCIO7 (power), R1 IO/LVDSTX08n (105) (io), R2 IO/LVDSTX08p (106) (io), R3 IO (43) (io), R4 IO (35) (io), R5 IO (107) (io), R6 CLK4p (58) (in), R7 I/O,CLK4n (57) (io), R8 IO/DEV_OE (73) (io), R9 IO/DEV_CLRn (52) (io), T1 IO/LVDSTX09p (108) (io), T2 IO/LVDSTX09n (109) (io), T3 IO (131) (io), T4 IO (133) (io), T5 IO (130) (io), T6 I/O,CS (51) (io), T8 I/O,CLKLK_FB2n (55) (io), T10 VCCIO7 (power), U1 IO/LVDSTX10n (112) (io), U2 IO/LVDSTX10p (113) (io), U3 IO (136) (io), U4 IO (134) (io), U5 IO (132) (io), U6 IO/LOCK2 (81) (io), U7 I/O,CLKLK_OUT2n (77) (io), V1 IO/LVDSTX11p (114) (io), V2 IO/LVDSTX11n (115) (io), V3 IO (137) (io), V4 IO (142) (io), V5 IO (141) (io), W1 IO/LVDSTX12n (116) (io), W2 IO/LVDSTX12p (118) (io), W3 IO (143) (io), W4 IO (135) (io), W5 IO (138) (io), W6 IO (139) (io), W7 IO/LOCK4 (88) (io), Y1 IO/LVDSTX13p (119) (io), Y2 IO/LVDSTX13n (120) (io), Y5 IO (144) (io), Y6 IO (147) (io)
part E pins: AA12 CONF_DONE (201) (io), AA13 nSTATUS (202) (io), AA14 TCK (210) (in), AA15 TMS (211) (in), AE20 CLKLK_FB1p (337) (in), AE23 CLKLK_OUT1p (352) (out), F14 TRST (480) (in), G13 TDO (489) (out), G14 nCEO (481) (out), N6 DATA0 (62) (in), N7 DCLK (63) (in), N20 MSEL1 (346) (in), N21 MSEL0 (347) (in), P6 nCE (65) (in), P7 TDI (66) (in), P16 CLKLK_ENA (344) (in), P21 nCONFIG (343) (in), T7 CLKLK_OUT2p (76) (out), U8 CLKLK_FB2p (56) (in)
part F pins: A2 GND (power), A3 VCCINT (power), A8 GND (power), A14 GND (power), A19 GND (power), A24 VCCINT (power), A25 GND (power), AC3 VCCINT (power), AC4 GND (power), AC23 GND (power), AC24 VCCINT (power), AC25 GND_CKLK3 (357) (power), AC26 VCC_CKLK3 (354) (power), AD1 VCCINT (power), AD2 VCCINT (power), AD3 GND (power), AD13 GND (power), AD24 GND (power), AD25 VCCINT (power), AD26 VCCINT (power), AE1 GND (power), AE2 GND (power), AE3 VCCINT (power), AE6 GND (power), AE8 VCCINT (power), AE18 GND_CKLK1 (333/334) (power), AE19 VCCINT (power), AE21 GND (power), AE22 GND_CKOUT1 (351) (power), AE24 VCCINT (power), AE25 GND (power), AE26 GND (power), AF2 GND (power), AF3 VCCINT (power), AF8 GND (power), AF14 GND (power), AF18 VCC_CKLK1 (332) (power), AF19 GND (power), AF22 VCC_CKOUT1 (350) (power), AF24 VCCINT (power), AF25 GND (power), B1 GND (power), B2 GND (power), B3 VCCINT (power), B6 GND (power), B8 VCCINT (power), B19 VCCINT (power), B21 GND (power), B24 VCCINT (power), B25 GND (power), B26 GND (power), C1 VCCINT (power), C2 VCCINT (power), C3 GND (power), C13 GND (power), C24 GND (power), C25 VCCINT (power), C26 VCCINT (power), D3 VCCINT (power), D4 GND (power), D23 GND (power), D24 VCCINT (power), H8 GND (power), H19 GND (power), J9 GND (power), J18 GND (power), K10 GND (power), K11 VCCINT (power), K17 GND (power), L10 VCCINT (power), L11 GND (power), L13 GND (power), L15 VCCINT (power), L16 GND (power), M12 GND (power), M13 VCCINT (power), M15 GND (power), M16 VCCINT (power), N1 GND (power), N2 VCCINT (power), N4 GND (power), N11 VCC_CKLK2 (72) (power), N12 VCCINT (power), N13 GND (power), N14 GND (power), N25 GND_CKLK3 (356) (power), N26 GND (power), P1 GND (power), P2 GND (power), P3 GND (power), P10 VCC_CKLK4 (47) (power), P11 GND_CKLK2 (68/69) (power), P13 GND (power), P14 GND (power), P15 VCCINT (power), P23 GND (power), P24 VCCINT (power), P25 VCCINT (power), P26 GND (power), R10 GND_CKLK4 (48/49) (power), R11 VCCINT (power), R12 GND (power), R14 VCCINT (power), R15 GND (power), T11 GND (power), T12 VCCINT (power), T16 GND (power), T17 VCCINT (power), U9 VCCINT (power), U10 GND (power), U16 VCCINT (power), U17 GND (power), V6 GND_CKOUT2 (75) (power), V7 VCC_CKOUT2 (74) (power), V9 GND (power), V18 GND (power), W8 GND (power), W19 GND (power)
part G pins: A4 NC, A7 NC, A9 NC, A10 NC, A11 NC, A12 NC, A15 NC, A16 NC, A17 NC, A18 NC, A20 NC, A22 NC, A23 NC, AC7 NC, AC8 NC, AC9 NC, AC10 NC, AC11 NC, AC12 NC, AC13 NC, AC14 NC, AC15 NC, AC16 NC, AC17 NC, AC18 NC, AC19 NC, AC20 NC, AD7 NC, AD8 NC, AD9 NC, AD10 NC, AD11 NC, AD12 NC, AD14 NC, AD15 NC, AD16 NC, AD17 NC, AD18 NC, AD19 NC, AD20 NC, AD21 NC, AE4 NC, AE5 NC, AE7 NC, AE9 NC, AE10 NC, AE11 NC, AE12 NC, AE13 NC, AE14 NC, AE15 NC, AE16 NC, AE17 NC, AF4 NC, AF5 NC, AF7 NC, AF9 NC, AF10 NC, AF11 NC, AF12 NC, AF15 NC, AF16 NC, AF17 NC, B4 NC, B7 NC, B9 NC, B10 NC, B11 NC, B12 NC, B13 NC, B14 NC, B15 NC, B16 NC, B17 NC, B18 NC, B20 NC, B22 NC, B23 NC, C8 NC, C9 NC, C10 NC, C11 NC, C12 NC, C14 NC, C15 NC, C16 NC, C17 NC, C18 NC, C19 NC, C20 NC, C21 NC, C22 NC, C23 NC, D11 NC, D12 NC, D13 NC, D14 NC, D15 NC, D16 NC, D17 NC, D18 NC, Y3 NC

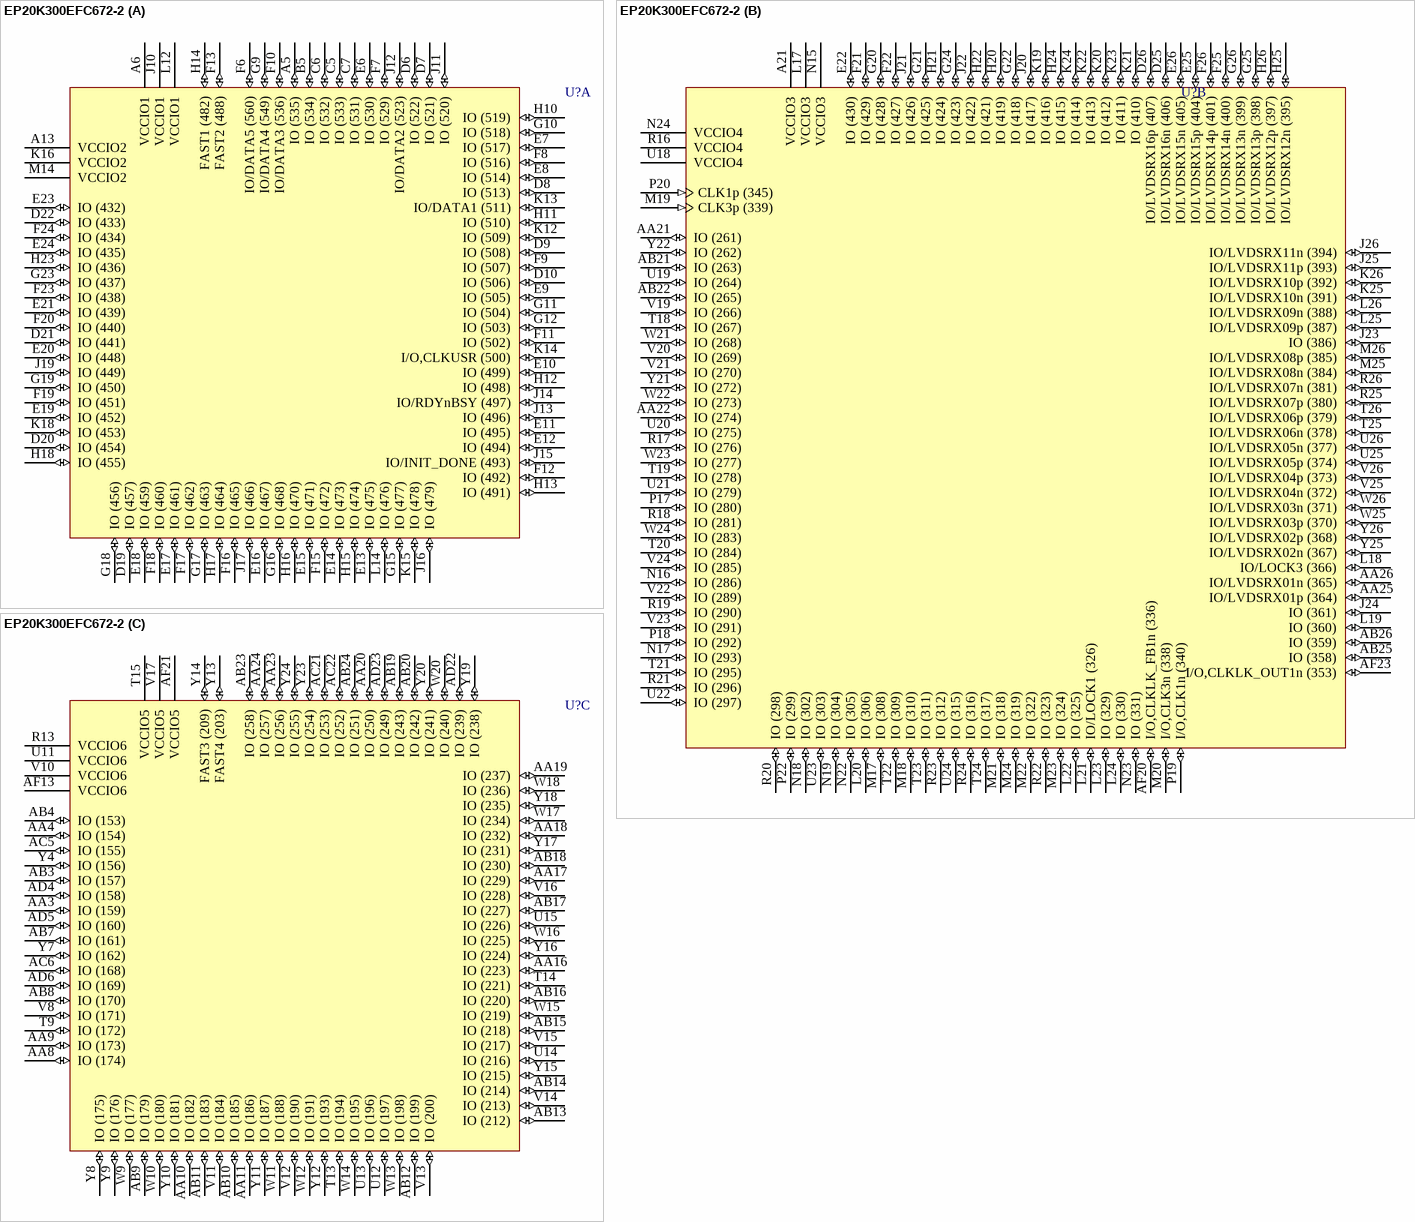
[diagram p231: symbol EP20K300EFC672-2]

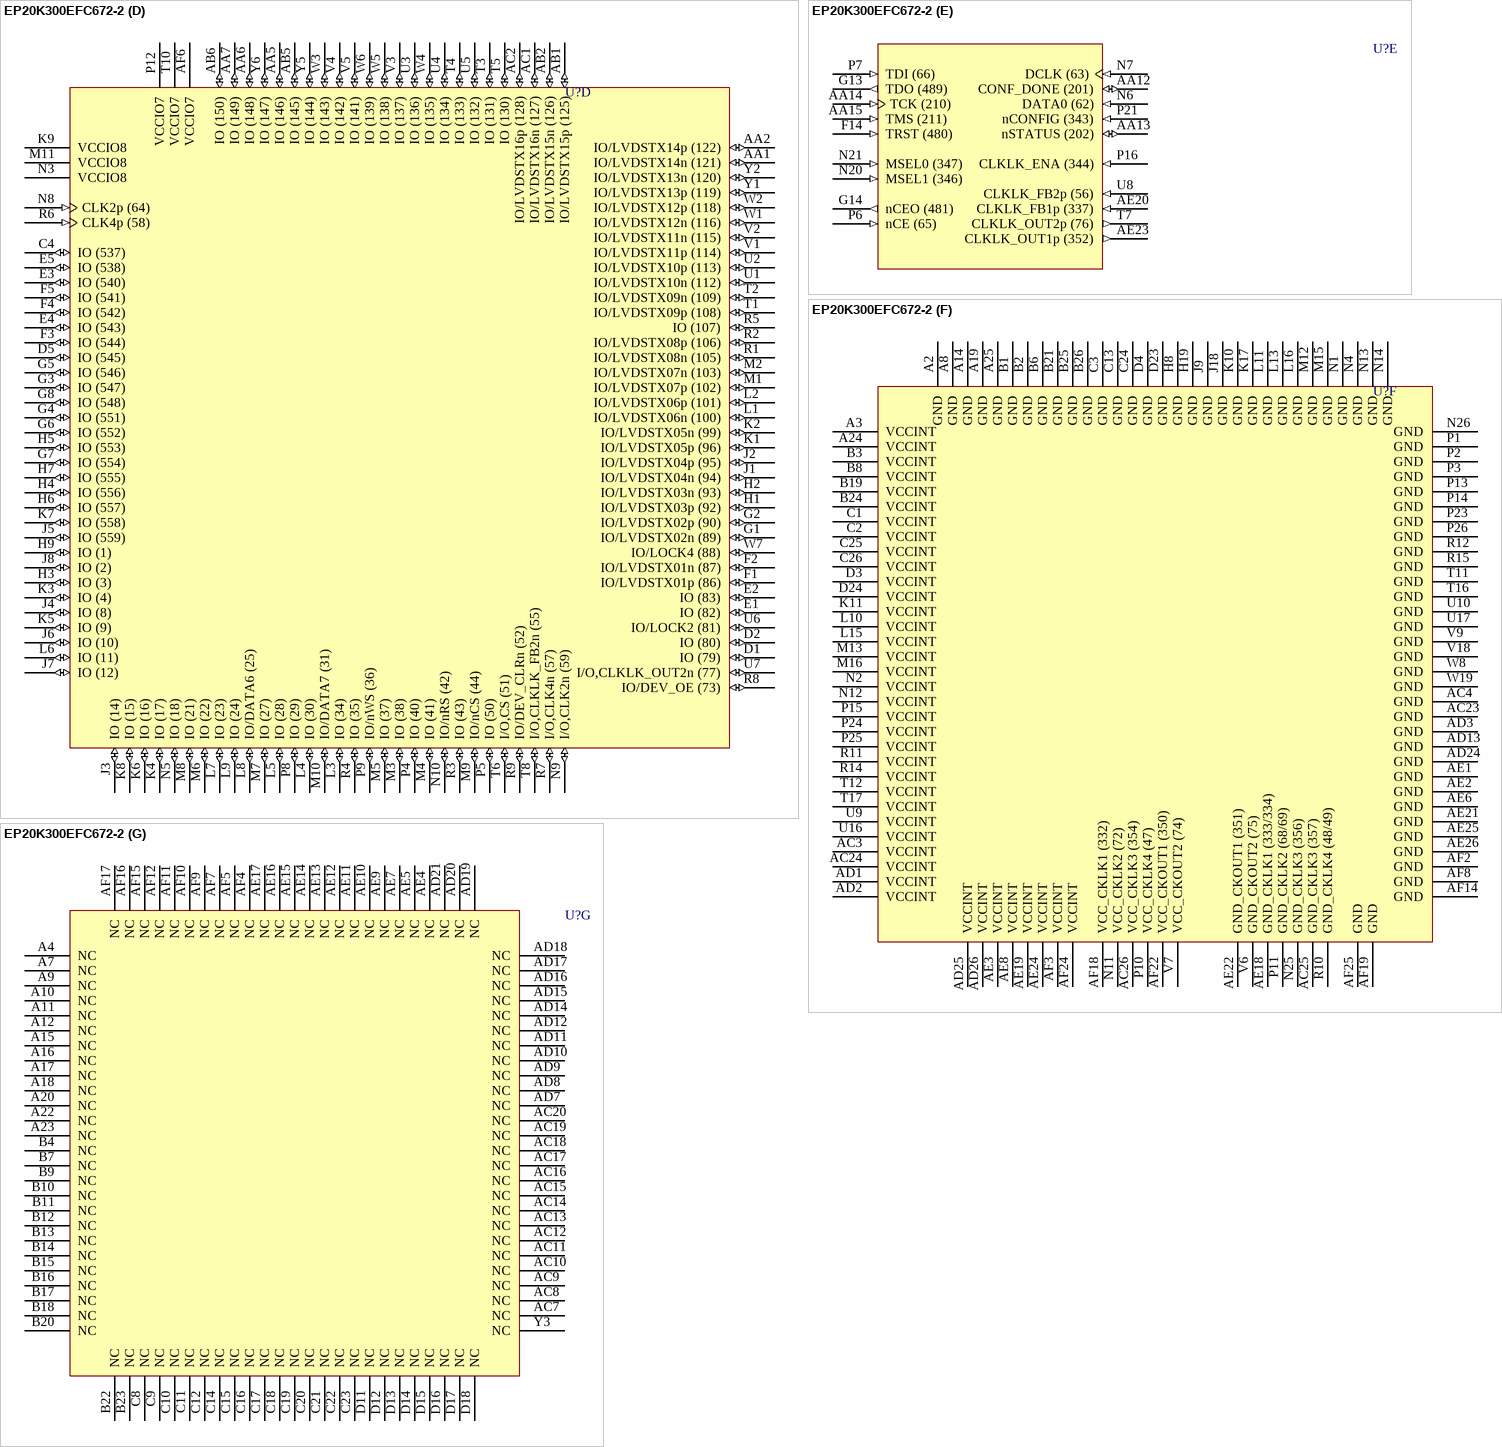
[diagram p232: symbol EP20K300EFC672-2]